# Altium footprint library lib_Robotronik.PcbLib: 35 footprints (part 2 of 3)
Each footprint in its own frame and in the unit in brackets; x right, y up, seen from the top. Pads: shape width x height; smd on the part's side, far side on the other; paste and mask are expansions set on the pad; w line width, h text height; cw(c..) or ccw(c..) is an arc to the next point about the centre after c.
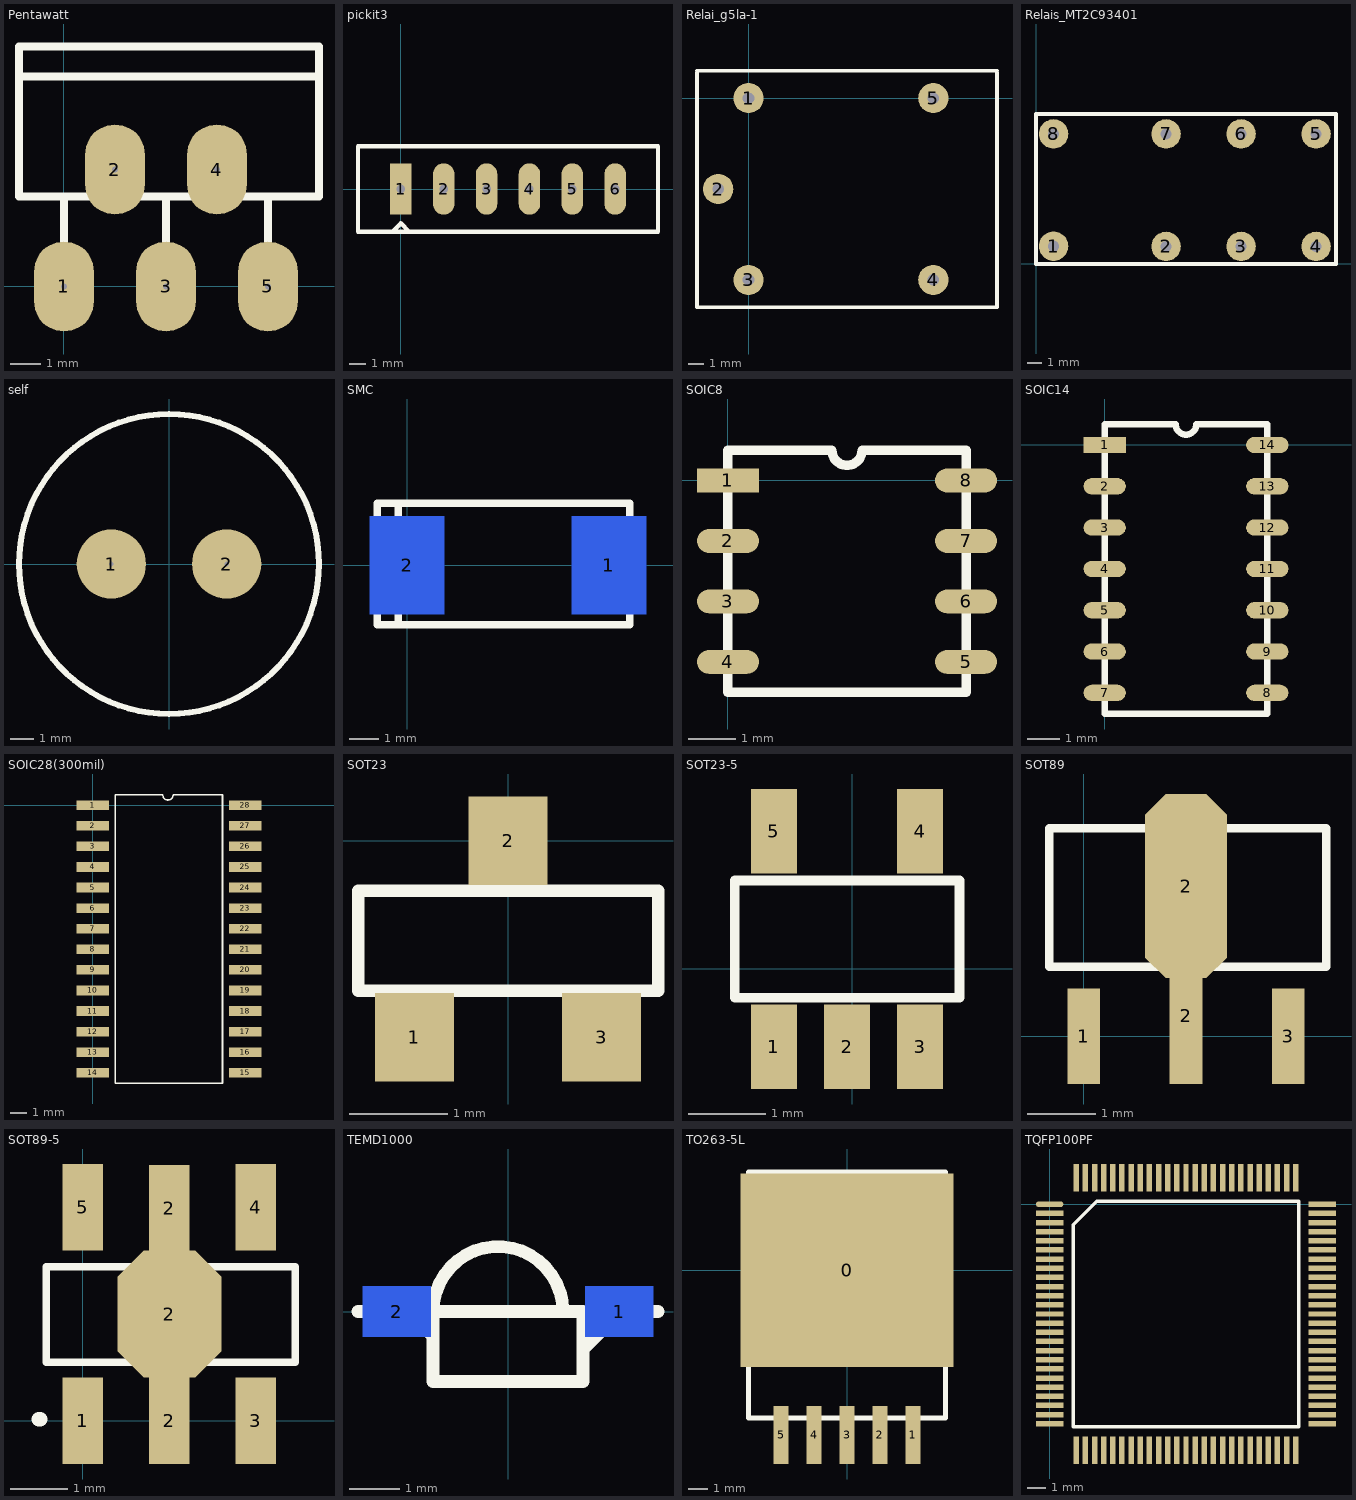
[diagram p1: the footprints below, top view; thin cyan lines are the x and y axes]

## Pentawatt [mm]
pads (5):
  oval 2x3 hole 0.2: 1(0,0) 2(1.7,3.9) 3(3.4,0) 4(5.1,3.9) 5(6.8,0)
Top Overlay:
  lines w0.254: -1.5,7 8.5,7 ; 0,0 0,3 ; 3.4,0 3.4,2.9 ; 6.8,0 6.8,3 ; -1.5,3 -1.5,8 8.5,8 8.5,3 -1.5,3

## pickit3 [mil]
pads (6):
  rect 50x120 hole 20: 1(0,0)
  oval 50x120 hole 20: 2(100,0) 3(200,0) 4(300,0) 5(400,0) 6(500,0)
Top Overlay:
  lines w10: -100,-100 -100,100 600,100 600,-100 -100,-100 ; -20,-100 0,-80 20,-100 -20,-100

## Relai_g5la-1 [mm]
pads (5):
  round 2 hole 0.762: 1(0,0) 2(-2,-6) 3(0,-12) 4(12.2,-12) 5(12.2,0)
Top Overlay:
  lines w0.254: -3.4,1.651 -3.4,-13.8 16.4,-13.8 16.4,1.651 ; -3.4,1.8 16.4,1.8

## Relais_MT2C93401 [mm]
pads (8):
  round 2 hole 0.762: 1(1.19,1.21) 2(8.81,1.19) 3(13.89,1.19) 4(18.97,1.19) 5(18.97,8.81) 6(13.89,8.81) 7(8.81,8.81) 8(1.19,8.81)
Top Overlay:
  lines w0.254: 0,0 20.32,0 20.32,10.16 0,10.16 0,0

## self [mm]
pads (2):
  round 3 hole 0.2: 1(-2.5,0) 2(2.5,0)
Top Overlay:
  circle w0.254: c0,0 r6.5

## SMC [mm]
pads (2):
  rect 2.5x3.3 smd far side: 1(6.8,0) 2(0,0)
Top Overlay:
  lines w0.254: -0.3,-2 -0.3,2.1 ; -1,-2 -1,2.1 7.5,2.1 7.5,-2 -1,-2

## SOIC8 [mm]
pads (8):
  rect 1.3x0.5 smd: 1(0,0)
  oval 1.3x0.5 smd: 2(0,-1.27) 3(0,-2.54) 4(0,-3.81) 5(5,-3.81) 6(5,-2.54) 7(5,-1.27) 8(5,0)
Top Overlay:
  lines w0.2: 0,-4.445 0,0.635 2.183,0.635 ccw(c2.5,0.635) 2.818,0.635 5,0.635 5,-4.445 0,-4.445

## SOIC14 [mm]
pads (14):
  rect 1.3x0.5 smd: 1(0,0)
  oval 1.3x0.5 smd: 2(0,-1.27) 3(0,-2.54) 4(0,-3.81) 5(0,-5.08) 6(0,-6.35) 7(0,-7.62) 8(5,-7.62) 9(5,-6.35) 10(5,-5.08) 11(5,-3.81) 12(5,-2.54) 13(5,-1.27) 14(5,0)
Top Overlay:
  lines w0.2: 0,-8.255 5,-8.255 5,0.635 2.818,0.635 cw(c2.5,0.635) 2.183,0.635 0,0.635 0,-8.255

## SOIC28(300mil) [mm]
pads (28):
  rect 2x0.6 smd: 1(0,0) 2(0,-1.27) 3(0,-2.54) 4(0,-3.81) 5(0,-5.08) 6(0,-6.35) 7(0,-7.62) 8(0,-8.89) 9(0,-10.16) 10(0,-11.43) 11(0,-12.7) 12(0,-13.97) 13(0,-15.24) 14(0,-16.51) 15(9.4,-16.51) 16(9.4,-15.24) 17(9.4,-13.97) 18(9.4,-12.7) 19(9.4,-11.43) 20(9.4,-10.16) 21(9.4,-8.89) 22(9.4,-7.62) 23(9.4,-6.35) 24(9.4,-5.08) 25(9.4,-3.81) 26(9.4,-2.54) 27(9.4,-1.27) 28(9.4,0)
Top Overlay:
  lines w0.1: 1.385,-17.145 1.385,0.635 4.318,0.635 ccw(c4.635,0.635) 4.953,0.635 8.001,0.635 8.001,-17.145 1.385,-17.145

## SOT23 [mm]
pads (3):
  rect 0.8x0.9 smd: 1(-0.95,-2) 2(0,0) 3(0.95,-2)
Top Overlay:
  lines w0.127: -1.524,-1.524 -1.524,-0.508 1.524,-0.508 1.524,-1.524 -1.524,-1.524

## SOT23-5 [mm]
pads (5):
  rect 0.6x1.1 smd: 1(-1.016,-1.016) 2(-0.066,-1.016) 3(0.884,-1.016) 4(0.884,1.784) 5(-1.016,1.784)
Top Overlay:
  lines w0.127: -1.524,-0.381 -1.524,1.143 1.397,1.143 1.397,-0.381 -1.524,-0.381

## SOT89 [mm]
pads (4):
  rect 0.48x1.4 smd: 1(0,0) 3(3,0)
  rect 0.48x2 smd: 2(1.5,0.3)
  oct 1.2x2.7 smd: 2(1.5,2.2)
Top Overlay:
  lines w0.127: -0.508,1.016 -0.508,3.048 3.556,3.048 3.556,1.016 -0.508,1.016

## SOT89-5 [mm]
pads (7):
  rect 0.7x1.5 smd: 1(0,0) 2(1.5,0) 2(1.5,3.683) 3(3,0) 4(3,3.7) 5(0,3.7)
  oct 1.8x2.2 smd: 2(1.5,1.85)
Top Overlay:
  lines w0.127: 0.381,1.016 -0.635,1.016 ; -0.635,1.016 -0.635,2.667 3.683,2.667 3.683,1.016 -0.635,1.016
  lines w0.254: -0.762,0.025 -0.737,0.025

## TEMD1000 [mm]
pads (2):
  rect 1.35x1 smd far side: 1(2.225,0) 2(-2.225,0)
Top Overlay:
  lines w0.254: -3,0 -2,0 -1.5,-0.5 ; 1.1,0 ccw(c-0.2,0) -1.5,0 ; 1.525,-0.725 2.25,0 3,0 ; -1.5,0 1.5,0 1.5,-1.4 -1.5,-1.4 -1.5,0

## TO263-5L [mm]
pads (6):
  rect 11x10 all layers, no hole: 0(0,0)
  rect 0.77x3 all layers, no hole: 1(3.4,-8.5) 2(1.7,-8.5) 3(0,-8.5) 4(-1.7,-8.5) 5(-3.4,-8.5)
Top Overlay:
  lines w0.254: -5.08,-7.62 5.08,-7.62 5.08,5.08 -5.08,5.08 -5.08,-7.62

## TQFP100PF [mm]
pads (100):
  oval 1.5x0.3 smd: 1(0,0)
  rect 1.5x0.3 smd: 2(0,-0.5) 3(0,-1) 4(0,-1.5) 5(0,-2) 6(0,-2.5) 7(0,-3) 8(0,-3.5) 9(0,-4) 10(0,-4.5) 11(0,-5) 12(0,-5.5) 13(0,-6) 14(0,-6.5) 15(0,-7) 16(0,-7.5) 17(0,-8) 18(0,-8.5) 19(0,-9) 20(0,-9.5) 21(0,-10) 22(0,-10.5) 23(0,-11) 24(0,-11.5) 25(0,-12) 51(14.9,-12) 52(14.9,-11.5) 53(14.9,-11) 54(14.9,-10.5) 55(14.9,-10) 56(14.9,-9.5) 57(14.9,-9) 58(14.9,-8.5) 59(14.9,-8) 60(14.9,-7.5) 61(14.9,-7) 62(14.9,-6.5) 63(14.9,-6) 64(14.9,-5.5) 65(14.9,-5) 66(14.9,-4.5) 67(14.9,-4) 68(14.9,-3.5) 69(14.9,-3) 70(14.9,-2.5) 71(14.9,-2) 72(14.9,-1.5) 73(14.9,-1) 74(14.9,-0.5) 75(14.9,0)
  rect 0.3x1.5 smd: 26(1.45,-13.45) 27(1.95,-13.45) 28(2.45,-13.45) 29(2.95,-13.45) 30(3.45,-13.45) 31(3.95,-13.45) 32(4.45,-13.45) 33(4.95,-13.45) 34(5.45,-13.45) 35(5.95,-13.45) 36(6.45,-13.45) 37(6.95,-13.45) 38(7.45,-13.45) 39(7.95,-13.45) 40(8.45,-13.45) 41(8.95,-13.45) 42(9.45,-13.45) 43(9.95,-13.45) 44(10.45,-13.45) 45(10.95,-13.45) 46(11.45,-13.45) 47(11.95,-13.45) 48(12.45,-13.45) 49(12.95,-13.45) 50(13.45,-13.45) 76(13.45,1.45) 77(12.95,1.45) 78(12.45,1.45) 79(11.95,1.45) 80(11.45,1.45) 81(10.95,1.45) 82(10.45,1.45) 83(9.95,1.45) 84(9.45,1.45) 85(8.95,1.45) 86(8.45,1.45) 87(7.95,1.45) 88(7.45,1.45) 89(6.95,1.45) 90(6.45,1.45) 91(5.95,1.45) 92(5.45,1.45) 93(4.95,1.45) 94(4.45,1.45) 95(3.95,1.45) 96(3.45,1.45) 97(2.95,1.45) 98(2.45,1.45) 99(1.95,1.45) 100(1.45,1.45)
Top Overlay:
  lines w0.2: 1.285,-12.165 13.615,-12.165 13.615,0.165 2.57,0.165 1.285,-1.12 1.285,-12.165